# Altium schematic symbol library DataTranslator.SchLib: 12 symbols
Pins are listed as number, name and electrical type; pins without a type are passive.

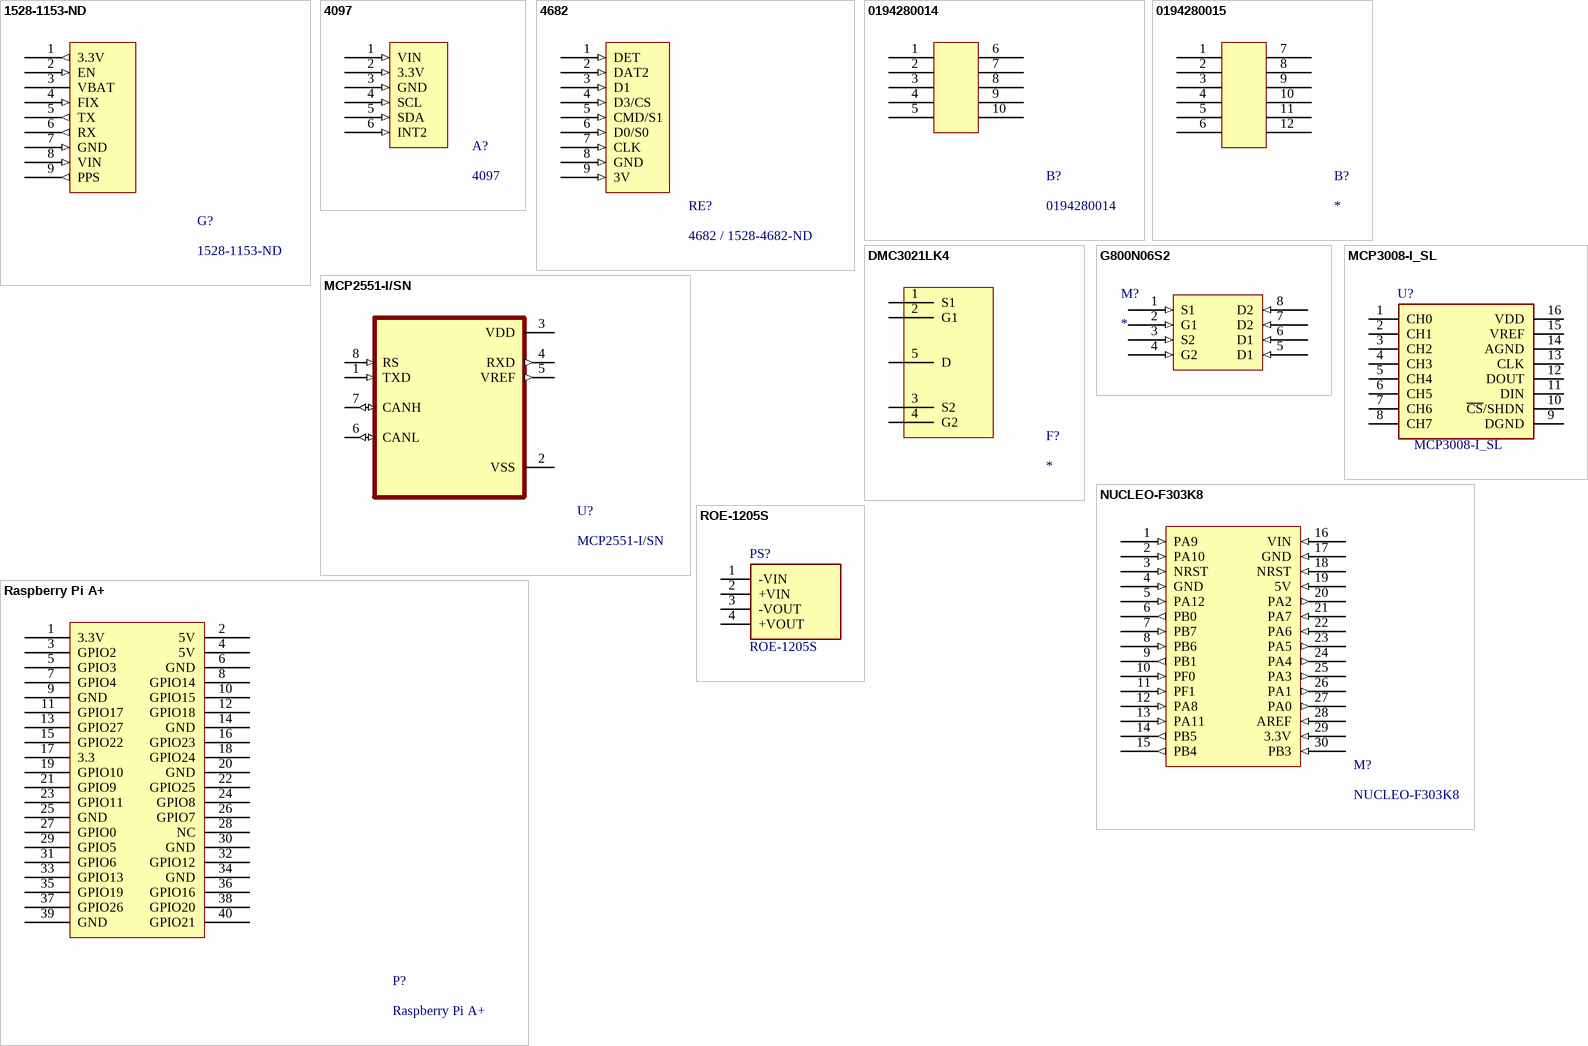
[diagram p0: symbols 1528-1153-ND to ROE-1205S]

## 1528-1153-ND
designator G?
GPS BREAKOUT 66CH W/10HZ UPDATES; Manufacturer: Adafruit Industries; Manufacturer Part Number: 746; Supplier: Digi-Key; Supplier Part Number: 1528-1153-ND; RoHS: Yes; Category: RF Semiconductors and Devices; Stock: 65; Pricing: 1=29.95 (USD); ComponentLink1URL: https://media.digikey.com/pdf/Data%20Sheets/Adafruit%20PDFs/746_Web.pdf?src-supplier=Digi-Key; ComponentLink1Description: https://media.digikey.com/pdf/Data%20Sheets/Adafruit%20PDFs/746_Web.pdf?src-supplier=Digi-Key; ComponentLink2URL: http://www.alliedelec.com/m/d/a201c4d28f3644f3ee4dce0b4167d661.pdf?src-supplier=Allied+Electronics; ComponentLink2Description: http://www.alliedelec.com/m/d/a201c4d28f3644f3ee4dce0b4167d661.pdf?src-supplier=Allied+Electronics
footprint GPS
pins: 1 3.3V (out), 2 EN (in), 3 VBAT, 4 FIX (in), 5 TX (out), 6 RX (out), 7 GND (in), 8 VIN (in), 9 PPS (out)

## 4097
designator A?
ADXL343 - TRIPLE-AXIS ACCELEROMETER; Manufacturer: Adafruit Industries; Supplier: Mouser; Supplier Part Number: 485-4097; Manufacturer Part Number: 4097; RoHS: No; Stock: 330; Pricing: 1=5.95, 10=5.95, 50=5.95, 100=5.95, 1000=5.95, 10000=5.95 (USD)
footprint 4097 Accelerometer
pins: 1 VIN (in), 2 3.3V (in), 3 GND (in), 4 SCL (in), 5 SDA (in), 6 INT2 (in)

## 4682
designator RE?, comment 4682 / 1528-4682-ND
MICROSD SPI/SPIO BREAKOUT BOARD; Manufacturer: Adafruit Industries; Manufacturer Part Number: 4682; Supplier: Arrow Electronics; Supplier Part Number: 4682; RoHS: No; Stock: 408; Pricing: 1=3.556 (USD)
footprint SDCARD
pins: 1 DET (in), 2 DAT2 (in), 3 D1 (in), 4 D3/CS (in), 5 CMD/S1 (in), 6 D0/S0 (in), 7 CLK (in), 8 GND (in), 9 3V (in)

## 0194280014
designator B?
Combination Line Connector, 10 Contact(s), Male, Solder Terminal; Manufacturer: Molex; Manufacturer Series: 19428; Contact Pattern: RECTANGULAR; Number Of Connectors: 1; Number Of PCB Rows: 2; Number of Contacts: 10; Mating Contact Pitch: 0.23inch; Mounting Option 1: LOCKING; PCB Contact Row Spacing: 5.9944mm; Plating Thickness: 100uin; Reference Standard: UL; Reliability: COMMERCIAL; Supplier: Mouser; Supplier Part Number: 538-19428-0014; Manufacturer Part Number: 0194280014; RoHS: Yes; Category: Uncategorized; Stock: 2675; Pricing: 1=6.21, 10=5.7, 50=5.7, 100=4.98, 1000=4.6, 10000=4.6 (USD); Mounting Technology: Board; Contact Finish - Mating: NOT SPECIFIED; Contact Finish - Termination: TIN OVER NICKEL; Insulation Color: Black; Insulation Material: Polybutylene; Connector Type: COMBINATION LINE CONNECTOR; Contact Gender: Male; Mounting Style: STRAIGHT; Number of Rows Loaded: 2; PCB Contact Pattern: RECTANGULAR; Termination: Solder; Terminal Pitch: 5.842mm; Reach SVHC Compliant: Yes; RoHS Compliant: Yes; ComponentLink1URL: https://datasheet.ciiva.com:443/pdfs/VipMasterIC/IC/MOLE/MOLE-S-A0006767587/MOLE-S-A0006776083-1.pdf?src-supplier=IHS+Markit; ComponentLink1Description: https://datasheet.ciiva.com:443/pdfs/VipMasterIC/IC/MOLE/MOLE-S-A0006767587/MOLE-S-A0006776083-1.pdf?src-supplier=IHS+Markit; ComponentLink2URL: https://datasheet.ciiva.com/41799/194280014-sd-41799129.pdf?src-supplier=Digi-Key; ComponentLink2Description: https://datasheet.ciiva.com/41799/194280014-sd-41799129.pdf?src-supplier=Digi-Key; ComponentLink3URL: https://datasheet.ciiva.com/10081/0194280014-pcb-headers-10081631.pdf?src-supplier=Avnet; ComponentLink3Description: https://datasheet.ciiva.com/10081/0194280014-pcb-headers-10081631.pdf?src-supplier=Avnet
footprint 0194280014
pins: 1, 2, 3, 4, 5, 6, 7, 8, 9, 10

## 0194280015
designator B?
Combination Line Connector; Manufacturer: Molex; Manufacturer Part Number: 0194280014; Manufacturer Series: 19428; Contact Pattern: RECTANGULAR; Number Of Connectors: 1; Number Of PCB Rows: 2; Number of Contacts: 10; Mating Contact Pitch: 0.23inch; Mounting Option 1: LOCKING; PCB Contact Row Spacing: 5.9944mm; Plating Thickness: 100uin; Reference Standard: UL; Reliability: COMMERCIAL; Supplier: Mouser; Supplier Part Number: 538-19428-0014; RoHS: Yes; Category: Uncategorized; Stock: 2675; Pricing: 1=6.21, 10=5.7, 50=5.7, 100=4.98, 1000=4.6, 10000=4.6 (USD); Mounting Technology: Board; Contact Finish - Mating: NOT SPECIFIED; Contact Finish - Termination: TIN OVER NICKEL; Insulation Color: Black; Insulation Material: Polybutylene; Connector Type: COMBINATION LINE CONNECTOR; Contact Gender: Male; Mounting Style: STRAIGHT; Number of Rows Loaded: 2; PCB Contact Pattern: RECTANGULAR; Termination: Solder; Terminal Pitch: 5.842mm; Reach SVHC Compliant: Yes; RoHS Compliant: Yes; ComponentLink1URL: https://datasheet.ciiva.com:443/pdfs/VipMasterIC/IC/MOLE/MOLE-S-A0006767587/MOLE-S-A0006776083-1.pdf?src-supplier=IHS+Markit; ComponentLink1Description: https://datasheet.ciiva.com:443/pdfs/VipMasterIC/IC/MOLE/MOLE-S-A0006767587/MOLE-S-A0006776083-1.pdf?src-supplier=IHS+Markit; ComponentLink2URL: https://datasheet.ciiva.com/41799/194280014-sd-41799129.pdf?src-supplier=Digi-Key; ComponentLink2Description: https://datasheet.ciiva.com/41799/194280014-sd-41799129.pdf?src-supplier=Digi-Key; ComponentLink3URL: https://datasheet.ciiva.com/10081/0194280014-pcb-headers-10081631.pdf?src-supplier=Avnet; ComponentLink3Description: https://datasheet.ciiva.com/10081/0194280014-pcb-headers-10081631.pdf?src-supplier=Avnet; ComponentLink4URL: https://datasheet.ciiva.com:443/pdfs/VipMasterIC/IC/MOLE/MOLES064408/MOLES064297-1.pdf?src-supplier=IHS+Markit; ComponentLink4Description: https://datasheet.ciiva.com:443/pdfs/VipMasterIC/IC/MOLE/MOLES064408/MOLES064297-1.pdf?src-supplier=IHS+Markit; ComponentLink5URL: https://datasheet.ciiva.com/6846/194280031-sd-6846247.pdf?src-supplier=Digi-Key; ComponentLink5Description: https://datasheet.ciiva.com/6846/194280031-sd-6846247.pdf?src-supplier=Digi-Key; ComponentLink6URL: https://datasheet.ciiva.com/9467/0194280015-pcb-headers-9467422.pdf?src-supplier=Avnet; ComponentLink6Description: https://datasheet.ciiva.com/9467/0194280015-pcb-headers-9467422.pdf?src-supplier=Avnet
footprint 0194280015
pins: 1, 2, 3, 4, 5, 6, 7, 8, 9, 10, 11, 12

## DMC3021LK4
designator F?
Power Field-Effect Transistor, 6.7A I(D), 30V, 0.021ohm, 2-Element, N-Channel and P-Channel, Silicon, Metal-oxide Semiconductor FET; Manufacturer: Diodes; Manufacturer Part Number: DMC3021LK4-13; Package Body Material: Plastic; Polarity/Channel Type: N-CHANNEL,P-CHANNEL; Additional Feature: HIGH RELIABILITY; Drain Current-Max (Abs) (ID): 14A; Drain-source On Resistance-Max: 21mR; Number of Elements: 2; Operating Mode: ENHANCEMENT MODE; Power Dissipation-Max (Abs): 22W; Pulsed Drain Current-Max (IDM): 40A; Time @ Peak Reflow Temperature-Max (s): 40s; Transistor Application: SWITCHING; Supplier: Digi-Key; Supplier Part Number: DMC3021LK4-13DICT-ND; RoHS: Yes; Category: MOSFETs; Stock: 2345; Pricing: 1=0.63, 10=0.536, 100=0.4004, 500=0.31462, 1000=0.24312 (USD); Pins: 4; Transistor Element Material: SILICON; Package Shape: Rectangular; Terminal Finish: Tin; Max Operating Temperature: 150°C; JESD-609 Code: e3; Drain Current-Max (ID): 6.7A; DS Breakdown Voltage-Min: 30V; FET Technology: METAL-OXIDE SEMICONDUCTOR; Moisture Sensitivity Level: 1; Package Style: SMALL OUTLINEMeter; Peak Reflow Temperature (Cel): 260°C; Surface Mount: Yes; Terminal Form: Gull Wing; Terminal Position: SINGLE; Reach SVHC Compliant: Yes; RoHS Compliant: Yes; ComponentLink1URL: https://datasheet.ciiva.com:443/pdfs/VipMasterIC/IC/DIOD/DIODS21602/DIODS21602-1.pdf?src-supplier=IHS+Markit; ComponentLink1Description: https://datasheet.ciiva.com:443/pdfs/VipMasterIC/IC/DIOD/DIODS21602/DIODS21602-1.pdf?src-supplier=IHS+Markit; ComponentLink2URL: https://datasheet.ciiva.com/6386/dmc3021lk4-6386737.pdf?src-supplier=Digi-Key; ComponentLink2Description: https://datasheet.ciiva.com/6386/dmc3021lk4-6386737.pdf?src-supplier=Digi-Key; ComponentLink3URL: https://datasheet.ciiva.com/4443/dmc3021lk4-80786-4443001.pdf?src-supplier=Mouser; ComponentLink3Description: https://datasheet.ciiva.com/4443/dmc3021lk4-80786-4443001.pdf?src-supplier=Mouser; ComponentLink4URL: https://datasheet.ciiva.com/930/dmc3021lk4-930444.pdf?src-supplier=Digi-Key; ComponentLink4Description: https://datasheet.ciiva.com/930/dmc3021lk4-930444.pdf?src-supplier=Digi-Key; ComponentLink5URL: https://datasheet.ciiva.com/6386/dmc3021lk4-6386734.pdf?src-supplier=Digi-Key; ComponentLink5Description: https://datasheet.ciiva.com/6386/dmc3021lk4-6386734.pdf?src-supplier=Digi-Key; ComponentLink6URL: https://datasheet.ciiva.com/11174/dmc3021lk4-11174949.pdf?src-supplier=Avnet; ComponentLink6Description: https://datasheet.ciiva.com/11174/dmc3021lk4-11174949.pdf?src-supplier=Avnet
footprint DMC3021LK4
pins: 1 S1, 2 G1, 3 S2, 4 G2, 5 D

## G800N06S2
designator M?
DUAL N-Channel Enhancement Mode Power MOSFET; Manufacturer: GoFord; Manufacturer Part Number: G800N06S2; Supplier: Digi-Key; Supplier Part Number: 3141-G800N06S2CT-ND; RoHS: No; Stock: 3988; Pricing: 1=0.49, 10=0.395, 100=0.2688, 500=0.2016, 1000=0.1512, 2000=0.1386 (USD)
footprint G800N06S2
pins: 1 S1 (in), 2 G1 (in), 3 S2 (in), 4 G2 (in), 5 D1 (in), 6 D1 (in), 7 D2 (in), 8 D2 (in)

## MCP2551-I/SN
designator U?
CAN Transceiver, 1-Trnsvr, PDSO8; Manufacturer: Microchip; Number of Terminals/Pins: 8; Package Body Material: Plastic; Max Supply Voltage: 5.5V; Min Supply Voltage: 4.5V; Data Rate: 1Mbps; Operating Supply Voltage: 5V; Nominal Supply Current: 75mA; Interface: Serial,CAN; Number of Transceivers: 1; Slew Rate: 8.5V/µs; Time @ Peak Reflow Temperature-Max (s): 40s; Package Equivalence Code: SOP8,.25; Telecom IC Type: INTERFACE CIRCUIT; Qualification Status: Not Qualified; Package: None; MP: MCP2551-I/SN; Price: None; Availability: Unavailable; Value: *; Supplier: Newark; Supplier Part Number: 69K7604; Manufacturer Part Number: MCP2551-I/SN; RoHS: Yes; Category: Interface ICs; Stock: 47560; Pricing: 1=1.37000, 10=1.32000, 25=1.26000, 50=1.26000, 100=1.25000 (USD); Mounting Technology: Surface Mount; Case/Package: SOIC; Pins: 8; Contact Plating: Tin,Matte; Package Shape: Rectangular; Terminal Finish: Tin; Min Operating Temperature: -40°C; Max Operating Temperature: 85°C; Packaging: Rail/Tube; Package Quantity: 100; Supply Current: 75mA; Number of Transmit Buffers: 1; Number of Receive Buffers: 1; Max Supply Current: 75mA; Number of Drivers: 1; Number of Receivers: 1; Logic Function: Transceiver; Channels: 1; Nominal Supply Voltage: 5.5V; JESD-30 Code: R-PDSO-G8; Moisture Sensitivity Level: 1; Peak Reflow Temperature (Cel): 260°C; Surface Mount: Yes; Terminal Form: Gull Wing; Terminal Position: DUAL; Length: 4.9mm; Width: 3.9mm; Height: 1.25mm; Radiation Hardening: No; Reach SVHC Compliant: Yes; RoHS Compliant: Yes; Lead Free: Lead Free; Temperature Grade: INDUSTRIAL; ComponentLink1URL: https://datasheet.ciiva.com/27056/2040583-27056423.pdf?src-supplier=Jameco; ComponentLink1Description: https://datasheet.ciiva.com/27056/2040583-27056423.pdf?src-supplier=Jameco; ComponentLink2URL: https://datasheet.ciiva.com/8084/jp011797-8084592.pdf?src-supplier=Avnet; ComponentLink2Description: https://datasheet.ciiva.com/8084/jp011797-8084592.pdf?src-supplier=Avnet; ComponentLink3URL: https://datasheet.ciiva.com/14152/eb644223-644224-e-14152540.pdf?src-supplier=Distrelec; ComponentLink3Description: https://datasheet.ciiva.com/14152/eb644223-644224-e-14152540.pdf?src-supplier=Distrelec; ComponentLink4URL: https://datasheet.ciiva.com/1495/21667f-1495089.pdf?src-supplier=Element14; ComponentLink4Description: https://datasheet.ciiva.com/1495/21667f-1495089.pdf?src-supplier=Element14; ComponentLink5URL: https://datasheet.ciiva.com/1700/21667f-1700023.pdf?src-supplier=Digi-Key; ComponentLink5Description: https://datasheet.ciiva.com/1700/21667f-1700023.pdf?src-supplier=Digi-Key; Package Style: SMALL OUTLINEMeter; JESD-609 Code: e3; Power Supplies: 5V; Technology: CMOS; Height - Seated (Max): 1.75mm; Terminal Pitch: 1.27mm; ComponentLink6URL: https://datasheet.ciiva.com:443/pdfs/VipMasterIC/IC/MCHP/MCHP-S-A0002782162/MCHP-S-A0002782162-1.pdf?src-supplier=IHS+Markit; ComponentLink6Description: https://datasheet.ciiva.com:443/pdfs/VipMasterIC/IC/MCHP/MCHP-S-A0002782162/MCHP-S-A0002782162-1.pdf?src-supplier=IHS+Markit
footprint CAN Transceiver
pins: 1 TXD (in), 2 VSS (power), 3 VDD (power), 4 RXD (out), 5 VREF (out), 6 CANL (io), 7 CANH (io), 8 RS (in)

## MCP3008-I_SL
designator U?
10-bit ADC, 8-channel, SPI Microchip MCP3008-I/SL, 10 bit Serial ADC, Differential Input, 16-Pin SOIC; Geometry.Height: 1.75mm; Manufacturer_Name: Microchip; Manufacturer_Part_Number: MCP3008-I/SL; Mouser Part Number: 579-MCP3008-I/SL; Mouser Price/Stock: https://www.mouser.co.uk/ProductDetail/Microchip-Technology-Atmel/MCP3008-I-SL?qs=BYQkrObauiuZK6Atf%2FfReA%3D%3D; Arrow Part Number: MCP3008-I/SL; Arrow Price/Stock: https://www.arrow.com/en/products/mcp3008-isl/microchip-technology?region=nac; Datasheet Link: https://datasheet.datasheetarchive.com/originals/distributors/Datasheets-DGA17/1031059.pdf
footprint SOIC127P600X175-16N
pins: 1 CH0, 2 CH1, 3 CH2, 4 CH3, 5 CH4, 6 CH5, 7 CH6, 8 CH7, 9 DGND, 10 ~{CS}/SHDN, 11 DIN, 12 DOUT, 13 CLK, 14 AGND, 15 VREF, 16 VDD

## NUCLEO-F303K8
designator M?
Boards/Accessories; Manufacturer: STMicroelectronics; Evaluation Kit: Yes; Number of Bits: 32; Core Architecture: ARM; Supplier: Newark; Supplier Part Number: 68Y1244; Manufacturer Part Number: NUCLEO-F303K8; RoHS: No; Category: Embedded Processors and Controllers; Stock: 226; Pricing: 1=10.33000 (USD); Series: STM32F3; Reach SVHC Compliant: Yes; Lead Free: Lead Free; ComponentLink1URL: http://www.farnell.com/datasheets/2064195.pdf?src-supplier=Farnell; ComponentLink1Description: http://www.farnell.com/datasheets/2064195.pdf?src-supplier=Farnell; ComponentLink2URL: http://www.st.com/content/ccc/resource/technical/document/data_brief/b1/d8/13/d4/b0/b7/4b/6e/DM00214578.pdf/files/DM00214578.pdf/jcr:content/translations/en.DM00214578.pdf?src-supplier=Digi-Key; ComponentLink2Description: http://www.st.com/content/ccc/resource/technical/document/data_brief/b1/d8/13/d4/b0/b7/4b/6e/DM00214578.pdf/files/DM00214578.pdf/jcr:content/translations/en.DM00214578.pdf?src-supplier=Digi-Key; ComponentLink3URL: http://www.st.com/st-web-ui/static/active/en/resource/technical/document/user_manual/DM00116575.pdf?s_searchtype=keyword&src-supplier=Avnet; ComponentLink3Description: http://www.st.com/st-web-ui/static/active/en/resource/technical/document/user_manual/DM00116575.pdf?s_searchtype=keyword&src-supplier=Avnet; ComponentLink4URL: http://www.farnell.com/datasheets/1966773.pdf?src-supplier=Element14; ComponentLink4Description: http://www.farnell.com/datasheets/1966773.pdf?src-supplier=Element14; ComponentLink5URL: http://www.farnell.com/datasheets/2064195.pdf?src-supplier=Newark; ComponentLink5Description: http://www.farnell.com/datasheets/2064195.pdf?src-supplier=Newark
footprint STM Footprint
pins: 1 PA9 (in), 2 PA10 (in), 3 NRST (in), 4 GND (in), 5 PA12 (in), 6 PB0 (out), 7 PB7 (in), 8 PB6 (in), 9 PB1 (out), 10 PF0 (in), 11 PF1 (in), 12 PA8 (in), 13 PA11 (in), 14 PB5 (out), 15 PB4 (out), 16 VIN (in), 17 GND (in), 18 NRST (in), 19 5V (in), 20 PA2 (out), 21 PA7 (in), 22 PA6 (in), 23 PA5 (out), 24 PA4 (out), 25 PA3 (out), 26 PA1 (out), 27 PA0 (out), 28 AREF (in), 29 3.3V (in), 30 PB3 (in)

## Raspberry Pi A+
designator P?
SINGLE BOARD COMPUTER 700MHZ 256; Supplier: Digi-Key; Supplier Part Number: 2648-RASPBERRYPIA+-ND; Manufacturer: Raspberry Pi; Manufacturer Part Number: RASPBERRY PI A+; RoHS: Yes; Category: Single Board Computers (SBCs); Pricing: 1=20 (USD); ComponentLink1URL: https://media.digikey.com/pdf/Data%20Sheets/Raspberry%20Pi%20PDFs/Raspberry_PI_1_Model_A+_Web.pdf?src-supplier=Digi-Key; ComponentLink1Description: https://media.digikey.com/pdf/Data%20Sheets/Raspberry%20Pi%20PDFs/Raspberry_PI_1_Model_A+_Web.pdf?src-supplier=Digi-Key
footprint Raspberry Pi A+
pins: 1 3.3V, 2 5V, 3 GPIO2, 4 5V, 5 GPIO3, 6 GND, 7 GPIO4, 8 GPIO14, 9 GND, 10 GPIO15, 11 GPIO17, 12 GPIO18, 13 GPIO27, 14 GND, 15 GPIO22, 16 GPIO23, 17 3.3, 18 GPIO24, 19 GPIO10, 20 GND, 21 GPIO9, 22 GPIO25, 23 GPIO11, 24 GPIO8, 25 GND, 26 GPIO7, 27 GPIO0, 28 NC, 29 GPIO5, 30 GND, 31 GPIO6, 32 GPIO12, 33 GPIO13, 34 GND, 35 GPIO19, 36 GPIO16, 37 GPIO26, 38 GPIO20, 39 GND, 40 GPIO21

## ROE-1205S
designator PS?
Recom Through Hole 1W Isolated DC-DC Converter, I/O isolation 1kV dc, Vout 5V dc; Manufacturer_Name: RECOM Power; Geometry.Height: 10.5mm; Manufacturer_Part_Number: ROE-1205S; Mouser Part Number: 919-ROE-1205S; Mouser Price/Stock: https://www.mouser.co.uk/ProductDetail/RECOM-Power/ROE-1205S?qs=wlO1EFRhkBDfK04Zv7WG%2Fg%3D%3D; Arrow Part Number: ROE-1205S; Arrow Price/Stock: https://www.arrow.com/en/products/roe-1205s/recom-power?region=nac; Datasheet Link: https://www.recom-power.com/pdf/Econoline/ROE.pdf
footprint ROE-1205S
pins: 1 -VIN, 2 +VIN, 3 -VOUT, 4 +VOUT